# EAGLE library part ADAFRUIT-BMP280-STEMMA-QT (library cabinet_temp_regulator)
ADAFRUIT BMP280 I2C OR SPI BAROMETRIC PRESSURE & ALTITUDE SENSOR <https://www.raspberrypi.org/products/raspberry-pi-zero/>
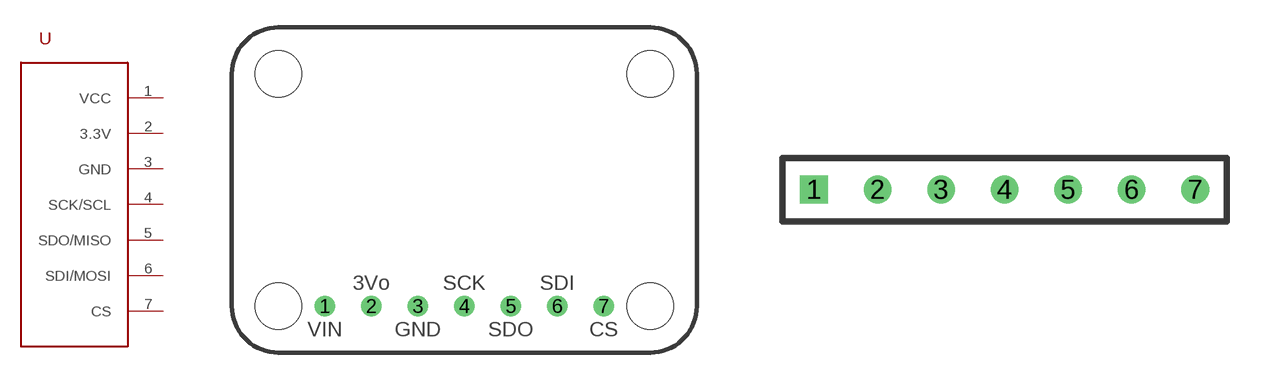
[diagram p0: symbol with the pads of ADAFRUIT-BMP280-STEMMA-QT-FULL_FOOTPRINT; footprints ADAFRUIT-BMP280-STEMMA-QT-FULL_FOOTPRINT, ADAFRUIT-BMP280-STEMMA-QT-HEADER]

Designator prefix -

## ADAFRUIT-BMP280-STEMMA-QT  [ADAFRUIT-BMP280-STEMMA-QT-FULL_FOOTPRINT]
1  VCC  pwr
2  3.3V  pwr
3  GND  pwr
4  SCK/SCL  in
5  SDO/MISO  out
6  SDI/MOSI  in
7  CS  in

## ADAFRUIT-BMP280-STEMMA-QTADAFRUIT-BMP280-STEMMA-QT-HEADER  [ADAFRUIT-BMP280-STEMMA-QT-HEADER]
Pads as for ADAFRUIT-BMP280-STEMMA-QT-FULL_FOOTPRINT

## Footprint ADAFRUIT-BMP280-STEMMA-QT-FULL_FOOTPRINT (pad centres in mm)
Adafruit BMP280 I2C or SPI Barometric Pressure & Altitude Sensor - STEMMA QT See: https://www.adafruit.com/product/2651
drill 0.6: 1 -7.62,-6.35; 2 -5.08,-6.35; 3 -2.54,-6.35; 4 0,-6.35; 5 2.54,-6.35; 6 5.08,-6.35; 7 7.62,-6.35
hole 2.54 at -10.16,6.35
hole 2.54 at 10.16,6.35
hole 2.54 at 10.16,-6.35
hole 2.54 at -10.16,-6.35

## Footprint ADAFRUIT-BMP280-STEMMA-QT-HEADER (pad centres in mm)
Adafruit BMP280 I2C or SPI Barometric Pressure & Altitude Sensor - STEMMA QT See: https://www.adafruit.com/product/2651
drill 0.6 square: 1 -7.62,0
drill 0.6: 2 -5.08,0; 3 -2.54,0; 4 0,0; 5 2.54,0; 6 5.08,0; 7 7.62,0